# EAGLE library part HEADER_1X8 (library logic-supply)
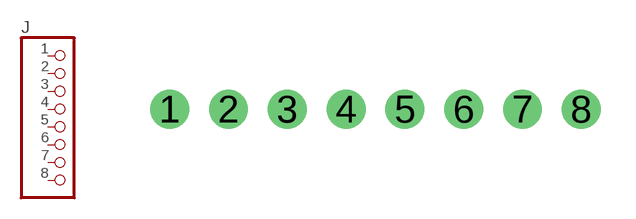
[diagram p17: symbol with the pads of HEADER_1X8; footprint HEADER_1X8]

Designator prefix J

## HEADER_1X8  [HEADER_1X8]
1  1  pas
2  2  pas
3  3  pas
4  4  pas
5  5  pas
6  6  pas
7  7  pas
8  8  pas

## Footprint HEADER_1X8 (pad centres in mm)
drill 1 pad 1.676: 1 -8.89,0; 2 -6.35,0; 3 -3.81,0; 4 -1.27,0; 5 1.27,0; 6 3.81,0; 7 6.35,0; 8 8.89,0